# EAGLE library part ESP8266EX (library Semiconductors > Embedded Processors & Controllers > Microcontrollers - MCU)
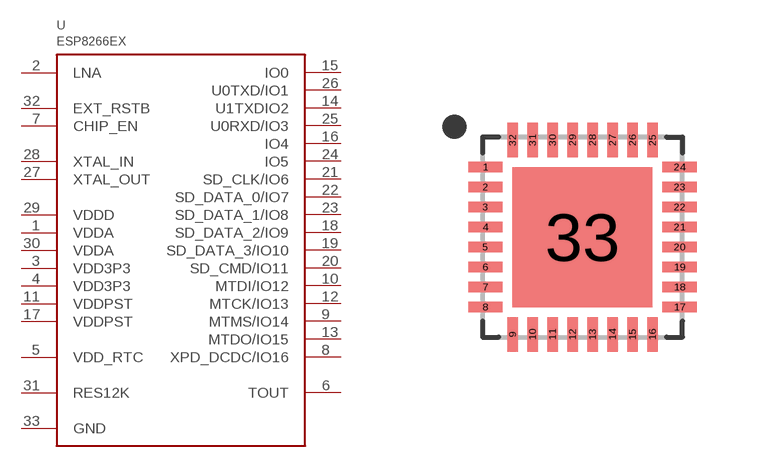
[diagram p8: symbol with the pads of QFN32; footprint QFN32]

Designator prefix U

## ESP8266EX  [QFN32]
1  VDDA
2  LNA
3  VDD3P3
4  VDD3P3
5  VDD_RTC
6  TOUT
7  CHIP_EN
8  XPD_DCDC/IO16
9  MTMS/IO14
10  MTDI/IO12
11  VDDPST
12  MTCK/IO13
13  MTDO/IO15
14  U1TXDIO2
15  IO0
16  IO4
17  VDDPST
18  SD_DATA_2/IO9
19  SD_DATA_3/IO10
20  SD_CMD/IO11
21  SD_CLK/IO6
22  SD_DATA_0/IO7
23  SD_DATA_1/IO8
24  IO5
25  U0RXD/IO3
26  U0TXD/IO1
27  XTAL_OUT
28  XTAL_IN
29  VDDD
30  VDDA
31  RES12K
32  EXT_RSTB
33  GND

## Footprint QFN32 (pad centres in mm)
smd 0.86 x 0.26: 1 -2.43,1.75; 2 -2.43,1.25; 3 -2.43,0.75; 4 -2.43,0.25; 5 -2.43,-0.25; 6 -2.43,-0.75; 7 -2.43,-1.25; 8 -2.43,-1.75; 17 2.43,-1.75; 18 2.43,-1.25; 19 2.43,-0.75; 20 2.43,-0.25; 21 2.43,0.25; 22 2.43,0.75; 23 2.43,1.25; 24 2.43,1.75
smd 0.26 x 0.86: 9 -1.75,-2.43; 10 -1.25,-2.43; 11 -0.75,-2.43; 12 -0.25,-2.43; 13 0.25,-2.43; 14 0.75,-2.43; 15 1.25,-2.43; 16 1.75,-2.43; 25 1.75,2.43; 26 1.25,2.43; 27 0.75,2.43; 28 0.25,2.43; 29 -0.25,2.43; 30 -0.75,2.43; 31 -1.25,2.43; 32 -1.75,2.43
smd 3.5 x 3.5: 33 0,0